# Altium schematic symbol library UC3842N.SchLib: 1 symbol
Pins are listed as number, name and electrical type; pins without a type are passive.

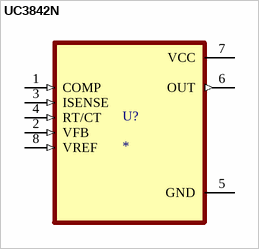
[diagram p0: symbol UC3842N]

## UC3842N
designator U?
Single ended 500KHz current mode PWM controller with 16V/10V UVLO 100% duty cycle, 0C to 70C; MF: Texas Instruments; MP: UC3842N; SnapEDA_Link: https://www.snapeda.com/parts/UC3842N/Texas+Instruments/view-part/?ref=snap; Package: PDIP-8 Texas; Value: *; Check_prices: https://www.snapeda.com/parts/UC3842N/Texas+Instruments/view-part/?ref=eda
footprint DIP794W45P254L959H508Q8
pins: 1 COMP (in), 2 VFB (in), 3 ISENSE (in), 4 RT/CT (in), 5 GND (power), 6 OUT (out), 7 VCC (power), 8 VREF (in)